# Altium integrated library SwarmRobotPCB.IntLib: 10 symbols
Pins are listed as number, name and electrical type; pins without a type are passive.

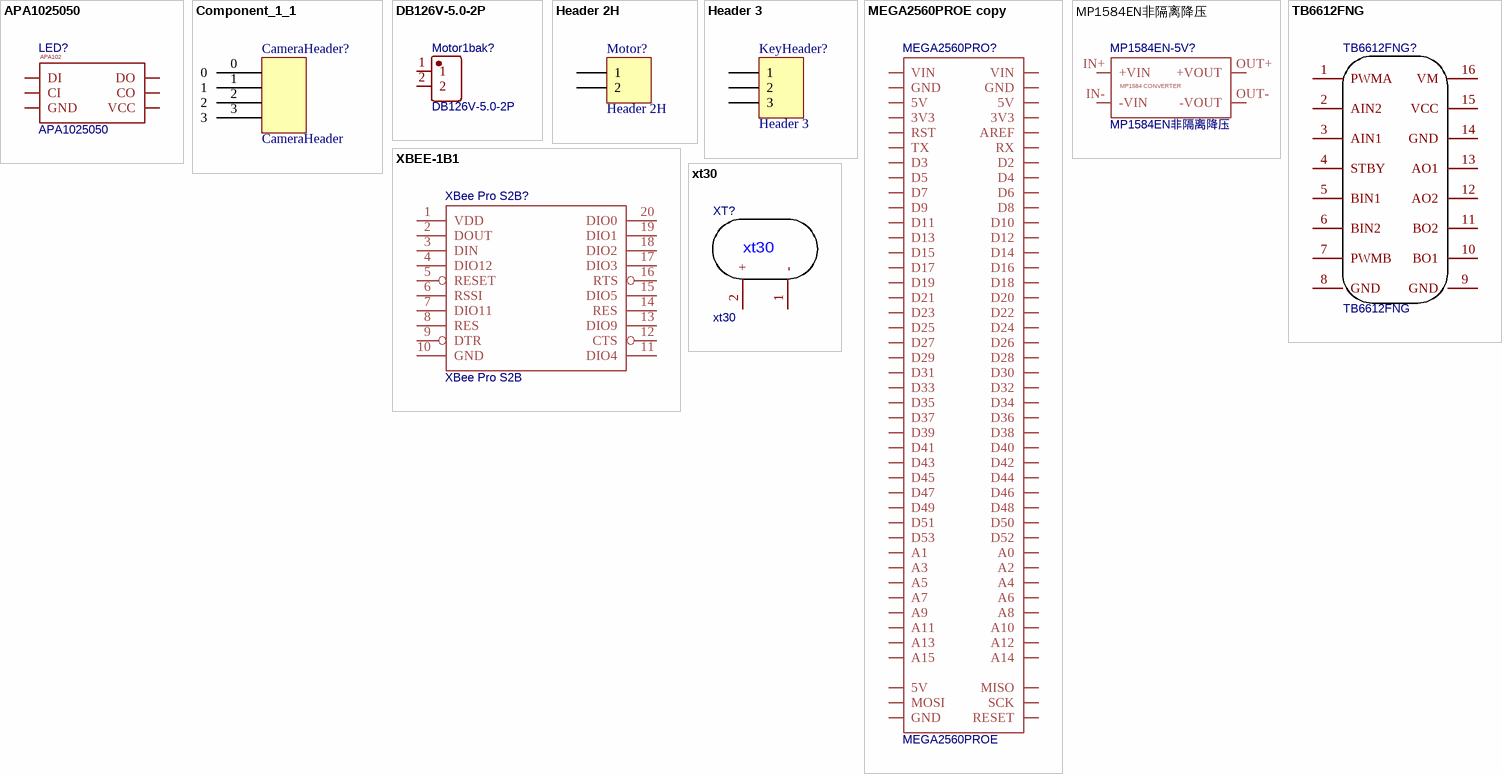
[diagram p0: symbols APA1025050 to xt30]

## APA1025050
designator LED?
spicePre: U
footprint APA102_5050
pins: 1 VCC, 2 CO, 3 DO, 4 DI, 5 CI, 6 GND
text: APA102

## Component_1_1
designator CameraHeader?, comment CameraHeader
footprint CameraHeader; pin to pad 0>1 1>2 2>3 3>4
pins: 0, 1, 2, 3

## DB126V-5.0-2P
designator Motor1bak?
BOM_Manufacturer: DIBO; Contributor: LCSC; BOM_Supplier: LCSC; BOM_Supplier Part: C395849; BOM_Manufacturer Part: DB126V-5.0-2P; spicePre: U
footprint CONN-TH_2PIN-V-PITCH5.00-L_JL126-50002G01
pins: 1, 2

## Header 2H
designator Motor?
Header, 2-Pin, Right Angle; LatestRevisionDate: 17-Jul-2002; LatestRevisionNote: Re-released for DXP Platform.; Publisher: Altium Limited
footprint HDR1X2H (Connector; Header; 2 Position; Right Angle)
signal-integrity model Connector
pins: 1, 2

## Header 3
designator KeyHeader?
Header, 3-Pin; LatestRevisionDate: 17-Jul-2002; LatestRevisionNote: Re-released for DXP Platform.; Publisher: Altium Limited
footprint HDR1X3 (Connector; Header; 3 Position)
signal-integrity model Connector
pins: 1, 2, 3

## MEGA2560PROE copy
designator MEGA2560PRO?, comment MEGA2560PROE
Contributor: westcowboy; spicePre: M
footprint MEGA2560PRO
pins: 3V3@1 3V3, 3V3@2 3V3, 5V@1 5V, 5V@2 5V, 5V@3 5V, A0, A1, A2, A3, A4, A5, A6, A7, A8, A9, A10, A11, A12, A13, A14, A15, AREF, D2, D3, D4, D5, D6, D7, D8, D9, D10, D11, D12, D13, D14, D15, D16, D17, D18, D19, D20, D21, D22, D23, D24, D25, D26, D27, D28, D29, D30, D31, D32, D33, D34, D35, D36, D37, D38, D39, D40, D41, D42, D43, D44, D45, D46, D47, D48, D49, D50, D51, D52, D53, GND@1 GND, GND@2 GND, GND@3 GND, MISO, MOSI, RESET, RST, RX, SCK, TX, VIN@1 VIN, VIN@2 VIN

## MP1584EN非隔离降压
designator MP1584EN-5V?
Contributor: zuwenz; spicePre: D
footprint MP1584_DC
pins: IN+ +VIN, IN+@1 +VIN, IN- -VIN, IN-@1 -VIN, OUT+ +VOUT, OUT+@1 +VOUT, OUT- -VOUT, OUT-@1 -VOUT
text: MP1584 CONVERTER

## TB6612FNG
designator TB6612FNG?
Contributor: Lwj.bf; sourceId: YsmgyP7pj; timeStamp: 1453691199; spicePre: U
footprint TB6612FNG
pins: 1 PWMA, 2 AIN2, 3 AIN1, 4 STBY, 5 BIN1, 6 BIN2, 7 PWMB, 8 GND, 9 GND, 10 BO1, 11 BO2, 12 AO2, 13 AO1, 14 GND, 15 VCC, 16 VM

## XBEE-1B1
designator XBee Pro S2B?, comment XBee Pro S2B
Contributor: niudvb; spicePre: ?
footprint XBEE-1
pins: 1 VDD, 2 DOUT, 3 DIN, 4 DIO12, 5 RESET, 6 RSSI, 7 DIO11, 8 RES, 9 DTR, 10 GND, 11 DIO4, 12 CTS, 13 DIO9, 14 RES, 15 DIO5, 16 RTS, 17 DIO3, 18 DIO2, 19 DIO1, 20 DIO0

## xt30
designator XT?
Contributor: Weiwww; spicePre: U
footprint XT30 GONG; pin to pad 1>2 2>1
pins: 1 -, 2 +